# Altium schematic symbol library Triac_Sch.SchLib: 3 symbols
Pins are listed as number, name and electrical type; pins without a type are passive.

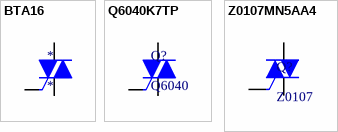
[diagram p0: symbols BTA16 to Z0107MN5AA4]

## BTA16
designator *
pins: 1 A1, 2 A2, 3 G

## Q6040K7TP
designator Q?, comment Q6040
Q6040K7 Series 40 A 600 V Bidirectional Alternistor TRIAC - TO-218AC; Manufacturer: Littelfuse; Manufacturer Part Number: Q6040K7TP; RMS Current (Irms): 40A; Element Configuration: Single; Hold Current: 100mA; Supplier 1: Future Electronics; RoHS: Yes; Category: TRIACs; Stock 1: 242251; Pricing 1: 25=5,47000, 75=5,43000, 250=5,39000, 500=5,37000, 1000=5,32000 (USD); Mount: Through Hole; Case/Package: TO-218-3; Min Operating Temperature: -40°C; Max Operating Temperature: 125°C; Packaging: Rail/Tube; Package Quantity: 250; Series: -; Radiation Hardening: No; Reach SVHC Compliant: Yes; Lead Free: Lead Free; RoHS Compliant: Yes; ComponentLink1URL: https://datasheet.ciiva.com/16394/littelfuse-thyristor-qxx40xx-datasheet-16394192.pdf?src-supplier=Future+Electronics; ComponentLink1Description: https://datasheet.ciiva.com/16394/littelfuse-thyristor-qxx40xx-datasheet-16394192.pdf?src-supplier=Future+Electronics; ComponentLink2URL: https://datasheet.ciiva.com/6719/littelfuse-thyristor-qxx40xx-6719885.pdf?src-supplier=Digi-Key; ComponentLink2Description: https://datasheet.ciiva.com/6719/littelfuse-thyristor-qxx40xx-6719885.pdf?src-supplier=Digi-Key
footprint TOP3_TO220_HORIZONTAL
pins: 1 A1, 2 A2, 3 G

## Z0107MN5AA4
designator Q?, comment Z0107
Z01 Series 600 Vdrm 1 A Surface Mount Standard Triac AC Switch - SOT-223; Manufacturer: STMicroelectronics; Manufacturer Part Number: Z0107MN5AA4; Max Repetitive Reverse Voltage (Vrrm): 600V; Hold Current: 10mA; RMS Current (Irms): 1A; Element Configuration: Single; Supplier 1: Digi-Key; RoHS: Yes; Category: TRIACs; Stock 1: 1500; Pricing 1: 1=0,69000, 10=0,60900, 100=0,46660, 500=0,36888 (USD); Mount: Surface Mount; Case/Package: SOT-223; Number of Pins: 3; Contact Plating: Tin,Matte; Min Operating Temperature: -40°C; Max Operating Temperature: 125°C; Packaging: Tape and Reel; Package Quantity: 1000; Current Rating: 1A; Voltage Rating (DC): 600V; Series: -; Length: 6.5mm; Width: 3.5mm; Height: 1.8mm; Radiation Hardening: No; REACH SVHC: No SVHC; Lead Free: Lead Free; RoHS Compliant: Yes; ComponentLink1URL: https://datasheet.ciiva.com/15140/getdatasheetpartid-146659-15140536.pdf?src-supplier=Verical; ComponentLink1Description: https://datasheet.ciiva.com/15140/getdatasheetpartid-146659-15140536.pdf?src-supplier=Verical; ComponentLink2URL: https://datasheet.ciiva.com/1197/1788497-1197971.pdf?src-supplier=Element14; ComponentLink2Description: https://datasheet.ciiva.com/1197/1788497-1197971.pdf?src-supplier=Element14; ComponentLink3URL: https://datasheet.ciiva.com/16358/cd00002268-16358294.pdf?src-supplier=Future+Electronics; ComponentLink3Description: https://datasheet.ciiva.com/16358/cd00002268-16358294.pdf?src-supplier=Future+Electronics; ComponentLink4URL: https://datasheet.ciiva.com/8130/cd00002268-8130263.pdf?src-supplier=Avnet; ComponentLink4Description: https://datasheet.ciiva.com/8130/cd00002268-8130263.pdf?src-supplier=Avnet; ComponentLink5URL: https://datasheet.ciiva.com/17423/cd00002268-17423324.pdf?src-supplier=Avnet+Europe; ComponentLink5Description: https://datasheet.ciiva.com/17423/cd00002268-17423324.pdf?src-supplier=Avnet+Europe
footprint DCY0004A_L (SOT223, 4-Leads, Body 6.7x3.7mm, Pitch 2.3mm, IPC High Density)
footprint DCY0004A_M (SOT223, 4-Leads, Body 6.7x3.7mm, Pitch 2.3mm, IPC Low Density)
footprint DCY0004A_N (SOT223, 4-Leads, Body 6.7x3.7mm, Pitch 2.3mm, IPC Medium Density)
pins: A1, A2, G